# Altium footprint library PCB1.PcbLib: 27 footprints (part 2 of 2)
Each footprint in its own frame and in the unit in brackets; x right, y up, seen from the top. Pads: shape width x height; smd on the part's side, far side on the other; paste and mask are expansions set on the pad; w line width, h text height; cw(c..) or ccw(c..) is an arc to the next point about the centre after c.
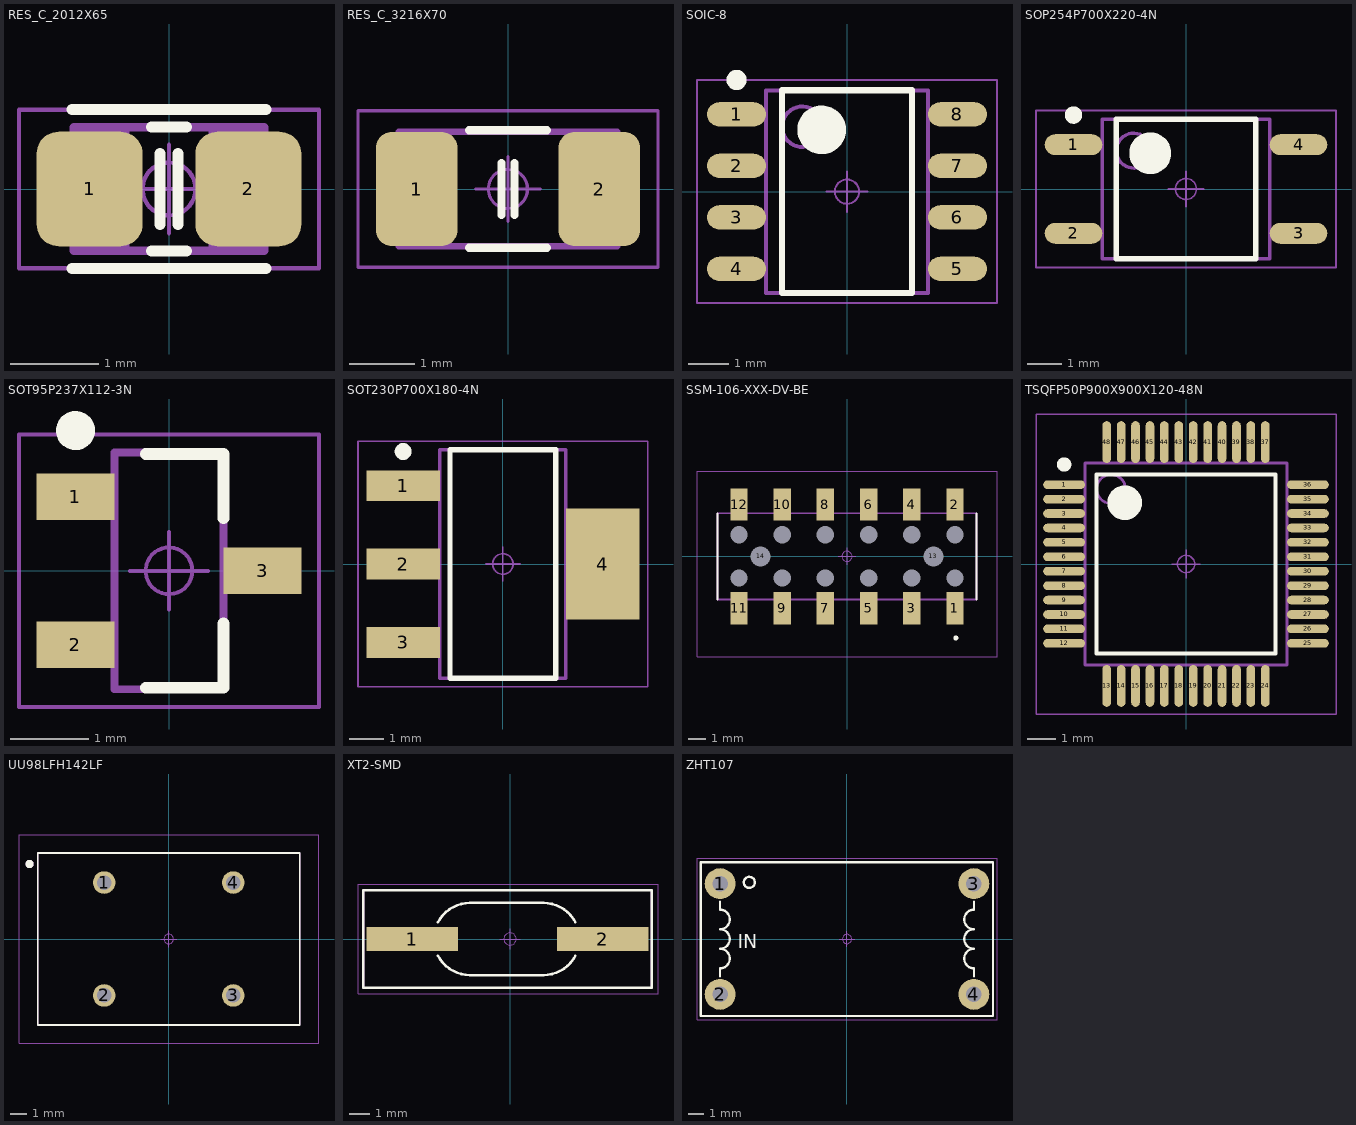
[diagram p1: the footprints below, top view; thin cyan lines are the x and y axes]

## RES_C_2012X65 [mm]
pads (2):
  rrect41% 1.2x1.3 smd: 1(-0.9,0) 2(0.9,0)
Top Overlay:
  lines w0.125: -1.1,-0.9 1.1,-0.9 ; -1.1,0.9 1.1,0.9 ; -0.2,-0.7 0.2,-0.7 ; -0.2,0.7 0.2,0.7 ; -0.1,-0.4 -0.1,0.4 ; 0.1,-0.4 0.1,0.4
Top Assembly:
  lines w0.1: -1.075,-0.7 -1.075,0.7 1.075,0.7 1.075,-0.7 -1.075,-0.7
  text "'.Designator'" at -4.217,-0.663 h1.6
Top Courtyard:
  lines w0.05: -1.7,-0.9 -1.7,0.9 1.7,0.9 1.7,-0.9 -1.7,-0.9
Top Component Center:
  circle w0.05: c0,0 r0.3
  lines w0.05: -0.5,0 0.5,0 ; 0,-0.5 0,0.5
Top Component Outline:
  region: 1.1,0.7 0.45,0.7 0.45,-0.7 1.1,-0.7
  rectangle: -1.1,-0.7 -0.45,0.7
  lines w0.05: -1.1,-0.7 1.1,-0.7 1.1,0.7 -1.1,0.7 -1.1,-0.7
3D body "RESC2012X65.step": height 0.65, standoff 0, extent -1.075,-0.7 1.075,0.7

## RES_C_3216X70 [mm]
pads (2):
  rrect39% 1.25x1.75 smd: 1(-1.4,0) 2(1.4,0)
Top Overlay:
  lines w0.125: -0.6,-0.9 0.6,-0.9 ; -0.6,0.9 0.6,0.9 ; -0.1,-0.4 -0.1,0.4 ; 0.1,-0.4 0.1,0.4
Top Assembly:
  lines w0.1: -1.675,-0.875 -1.675,0.875 1.675,0.875 1.675,-0.875 -1.675,-0.875
  text "'.Designator'" at -4.217,-0.663 h1.6
Top Courtyard:
  lines w0.05: -2.3,-1.2 -2.3,1.2 2.3,1.2 2.3,-1.2 -2.3,-1.2
Top Component Center:
  circle w0.05: c0,0 r0.3
  lines w0.05: -0.5,0 0.5,0 ; 0,-0.5 0,0.5
Top Component Outline:
  rectangle: -1.675,-0.875 -0.925,0.875
  region: 1.675,0.875 0.925,0.875 0.925,-0.875 1.675,-0.875
  lines w0.05: -1.675,-0.875 -1.675,0.875 1.675,0.875 1.675,-0.875 -1.675,-0.875
3D body "RESC3216X70.step": height 0.71, standoff 0, extent -1.675,-0.875 1.675,0.875

## SOIC-8 [mm]
pads (8):
  oval 1.45x0.6 smd: 1(-2.725,1.905) 2(-2.725,0.635) 3(-2.725,-0.635) 4(-2.725,-1.905) 5(2.725,-1.905) 6(2.725,-0.635) 7(2.725,0.635) 8(2.725,1.905)
Top Overlay:
  circle w0.25: c-2.725,2.755 r0.125
  circle w0.6: c-0.625,1.525 r0.3
  lines w0.15: -1.6,-2.5 -1.6,2.5 1.6,2.5 1.6,-2.5 -1.6,-2.5
Top Assembly:
  circle w0.1: c-1.1,1.6 r0.5
  lines w0.1: -2,-2.5 -2,2.5 2,2.5 2,-2.5 -2,-2.5
  text "'.Designator'" at -3.5,-1.6 h1.52
Top Courtyard:
  lines w0.05: -3.7,-2.75 -3.7,2.75 3.7,2.75 3.7,-2.75 -3.7,-2.75
Top Component Center:
  circle w0.05: c0,0 r0.3
  lines w0.05: -0.5,0 0.5,0 ; 0,-0.5 0,0.5
3D body "SOIC127P600X175-8N.step": height 1.75, standoff 0, extent -2.997,-2.5 2.997,2.5

## SOP254P700X220-4N [mm]
pads (4):
  oval 1.65x0.6 smd: 1(-3.225,1.27) 2(-3.225,-1.27) 3(3.225,-1.27) 4(3.225,1.27)
Top Overlay:
  circle w0.25: c-3.225,2.12 r0.125
  circle w0.6: c-1.025,1.025 r0.3
  lines w0.15: -2,-2 -2,2 2,2 2,-2 -2,-2
Top Assembly:
  circle w0.1: c-1.5,1.1 r0.5
  lines w0.1: -2.4,-2 -2.4,2 2.4,2 2.4,-2 -2.4,-2
  text "'.Designator'" at -3,-1.6 h1.52
Top Courtyard:
  lines w0.05: -4.3,-2.25 -4.3,2.25 4.3,2.25 4.3,-2.25 -4.3,-2.25
Top Component Center:
  circle w0.05: c0,0 r0.3
  lines w0.05: -0.5,0 0.5,0 ; 0,-0.5 0,0.5
3D body "SOP254P700X220-4N.step": height 2.2, standoff 0, extent -3.5,-2 3.5,2

## SOT95P237X112-3N [mm]
pads (3):
  rect 1x0.6 smd: 1(-1.2,0.95) 2(-1.2,-0.95) 3(1.2,0)
Top Overlay:
  circle w0.25: c-1.2,1.8 r0.125
  lines w0.15: -0.3,-1.5 0.7,-1.5 0.7,-0.675 ; -0.3,1.5 0.7,1.5 0.7,0.675
Top Assembly:
  lines w0.1: -0.7,-1.52 -0.7,1.52 0.7,1.52 0.7,-1.52 -0.7,-1.52
  text "'.Designator'" at -2.8,-1.5 h1.52
Top Courtyard:
  lines w0.05: -1.925,-1.75 -1.925,1.75 1.925,1.75 1.925,-1.75 -1.925,-1.75
Top Component Center:
  circle w0.05: c0,0 r0.3
  lines w0.05: -0.5,0 0.5,0 ; 0,-0.5 0,0.5
3D body "SOT95P237X112-3N.step": height 1.12, standoff 0, extent -1.32,-1.52 1.32,1.52

## SOT230P700X180-4N [mm]
pads (4):
  rect 2.15x0.9 smd: 1(-2.925,2.3) 2(-2.925,0) 3(-2.925,-2.3)
  rect 2.15x3.25 smd: 4(2.925,0)
Top Overlay:
  circle w0.25: c-2.925,3.3 r0.125
  lines w0.15: -1.55,-3.35 1.55,-3.35 1.55,3.35 -1.55,3.35 -1.55,-3.35
Top Assembly:
  lines w0.1: -1.85,-3.35 1.85,-3.35 1.85,3.35 -1.85,3.35 -1.85,-3.35
  text "'.Designator'" at -3.6,-1.4 h1.52
Top Courtyard:
  lines w0.05: -4.25,-3.6 4.25,-3.6 4.25,3.6 -4.25,3.6 -4.25,-3.6
Top Component Center:
  circle w0.05: c0,0 r0.3
  lines w0.05: -0.5,0 0.5,0 ; 0,-0.5 0,0.5
3D body "SOT230P700X180-4N.step": height 1.8, standoff 0, extent -3.5,-3.35 3.5,3.35

## SSM-106-XXX-DV-BE [mm]
pads (26):
  rect 1.02x1.905 smd: 1(6.35,-3.047) 2(6.35,3.047) 3(3.81,-3.047) 4(3.81,3.047) 5(1.27,-3.047) 6(1.27,3.047) 7(-1.27,-3.047) 8(-1.27,3.047) 9(-3.81,-3.047) 10(-3.81,3.047) 11(-6.35,-3.047) 12(-6.35,3.047)
  round 0.585 hole 1.17 unplated: 13(5.08,0) 14(-5.08,0)
  round 0.51 hole 1.02 unplated: 13(6.35,-1.27) 14(6.35,1.27) 15(3.81,-1.27) 16(3.81,1.27) 17(1.27,-1.27) 18(1.27,1.27) 19(-1.27,-1.27) 20(-1.27,1.27) 21(-3.81,-1.27) 22(-3.81,1.27) 23(-6.35,-1.27) 24(-6.35,1.27)
Top Overlay:
  circle w0.2: c6.4,-4.798 r0.05
  lines w0.1: -7.62,-2.54 -7.62,2.54 ; 7.62,-2.54 7.62,2.54
Top Assembly:
  lines w0.1: -7.62,-2.54 7.62,-2.54 7.62,2.54 -7.62,2.54 -7.62,-2.54
  text "'.Designator'" at -6.8,-1.2 h1.52
Top Courtyard:
  lines w0.05: -8.82,-5.897 8.82,-5.897 8.82,5 -8.82,5 -8.82,-5.897
Top Component Center:
  circle w0.05: c0,0 r0.3
  lines w0.05: -0.5,0 0.5,0 ; 0,-0.5 0,0.5
3D body "SSM-106-S-DV-A.stp": height 7.5, standoff -1.09, extent -7.62,-3.518 7.62,3.518

## TSQFP50P900X900X120-48N [mm]
pads (48):
  oval 1.45x0.3 smd: 1(-4.225,2.75) 2(-4.225,2.25) 3(-4.225,1.75) 4(-4.225,1.25) 5(-4.225,0.75) 6(-4.225,0.25) 7(-4.225,-0.25) 8(-4.225,-0.75) 9(-4.225,-1.25) 10(-4.225,-1.75) 11(-4.225,-2.25) 12(-4.225,-2.75) 25(4.225,-2.75) 26(4.225,-2.25) 27(4.225,-1.75) 28(4.225,-1.25) 29(4.225,-0.75) 30(4.225,-0.25) 31(4.225,0.25) 32(4.225,0.75) 33(4.225,1.25) 34(4.225,1.75) 35(4.225,2.25) 36(4.225,2.75)
  oval 0.3x1.45 smd: 13(-2.75,-4.225) 14(-2.25,-4.225) 15(-1.75,-4.225) 16(-1.25,-4.225) 17(-0.75,-4.225) 18(-0.25,-4.225) 19(0.25,-4.225) 20(0.75,-4.225) 21(1.25,-4.225) 22(1.75,-4.225) 23(2.25,-4.225) 24(2.75,-4.225) 37(2.75,4.225) 38(2.25,4.225) 39(1.75,4.225) 40(1.25,4.225) 41(0.75,4.225) 42(0.25,4.225) 43(-0.25,4.225) 44(-0.75,4.225) 45(-1.25,4.225) 46(-1.75,4.225) 47(-2.25,4.225) 48(-2.75,4.225)
Top Overlay:
  circle w0.25: c-4.225,3.45 r0.125
  circle w0.6: c-2.125,2.125 r0.3
  lines w0.15: -3.1,-3.1 -3.1,3.1 3.1,3.1 3.1,-3.1 -3.1,-3.1
Top Assembly:
  circle w0.1: c-2.6,2.6 r0.5
  lines w0.1: -3.5,-3.5 -3.5,3.5 3.5,3.5 3.5,-3.5 -3.5,-3.5
  text "'.Designator'" at -4.5,-1.4 h1.52
Top Courtyard:
  lines w0.05: -5.2,-5.2 -5.2,5.2 5.2,5.2 5.2,-5.2 -5.2,-5.2
Top Component Center:
  circle w0.05: c0,0 r0.3
  lines w0.05: -0.5,0 0.5,0 ; 0,-0.5 0,0.5
3D body "TSQFP50P900X900X120-48N.step": height 1.2, standoff 0, extent -4.5,-4.5 4.5,4.5

## UU98LFH142LF [mm]
pads (4):
  round 1.4 hole 0.9: 1(-4,3.5) 2(-4,-3.5) 3(4,-3.5) 4(4,3.5)
Top Overlay:
  circle w0.25: c-8.625,4.65 r0.125
  lines w0.1: -8.128,-5.334 -8.128,5.334 8.128,5.334 8.128,-5.334 -8.128,-5.334
Top Assembly:
  circle w0.25: c-8.625,4.65 r0.125
  lines w0.1: -8.128,-5.334 -8.128,5.334 8.128,5.334 8.128,-5.334 -8.128,-5.334
  text "'.Designator'" at -5.926,-1.454 h1.52
Top Courtyard:
  lines w0.05: -9.283,-6.477 -9.283,6.477 9.317,6.477 9.317,-6.477 -9.283,-6.477
Top Component Center:
  circle w0.05: c0,0 r0.3
  lines w0.05: -0.5,0 0.5,0 ; 0,-0.5 0,0.5
3D body "User Library-UF9_8.step": height 15.3, standoff -3, extent -8.081,-5.3 8.076,5.3

## XT2-SMD [mm]
pads (2):
  rect 4.5x1.2 smd: 1(-4.826,0) 2(4.572,0)
Top Overlay:
  lines w0.12: -7.239,-2.413 6.985,-2.413 ; -7.239,-2.413 -7.239,2.413 ; -7.239,-2.413 -7.239,2.413 ; -7.239,-2.413 6.985,-2.413 ; -7.239,2.413 6.985,2.413 ; -7.239,2.413 6.985,2.413 ; 6.985,-2.413 6.985,2.413 ; 6.985,-2.413 6.985,2.413
  lines w0.127: -3.556,-0.825 ccw(c-1.981,0) -1.981,-1.778 ; -3.556,0.825 cw(c-1.981,0) -1.981,1.778 ; -1.956,1.778 1.651,1.778 cw(c1.651,0) 3.226,0.825 ; -1.93,-1.787 1.626,-1.787 ; 1.651,-1.778 ccw(c1.651,0) 3.226,-0.825
Top Assembly:
  lines w0.1: -7.239,-2.413 -7.239,2.413 ; -7.239,-2.413 -7.239,2.413 ; -7.239,-2.413 6.985,-2.413 ; -7.239,-2.413 6.985,-2.413 ; -7.239,2.413 6.985,2.413 ; -7.239,2.413 6.985,2.413 ; 6.985,-2.413 6.985,2.413 ; 6.985,-2.413 6.985,2.413
  text "'.Designator'" at -7.4,-1.2 h1.52
Top Courtyard:
  lines w0.05: -7.5,-2.7 7.3,-2.7 7.3,2.7 -7.5,2.7 -7.5,-2.7
Top Component Center:
  circle w0.05: c0,0 r0.3
  lines w0.05: -0.5,0 0.5,0 ; 0,-0.5 0,0.5
3D body: height 0.25, standoff 0, extent -4.534,-0.419 -3.213,0.394
3D body: height 0.25, standoff 0, extent 2.832,-0.419 4.153,0.394
3D body: height 4.3, standoff 0, extent -6.527,-2.415 6.273,2.415

## ZHT107 [mm]
pads (4):
  round 2 hole 1: 1(-8.25,3.6) 2(-8.25,-3.6) 3(8.25,3.6) 4(8.25,-3.6)
Top Overlay:
  circle w0.15: c-6.35,3.683 r0.359
  lines w0.15: -8.255,-2.413 -8.255,-1.905 ccw(c-8.255,-1.27) -8.255,-0.635 ccw(c-8.255,0) -8.255,0.635 ccw(c-8.255,1.27) -8.255,1.905 -8.255,2.413 ; 8.255,-2.413 8.255,-1.905 cw(c8.255,-1.27) 8.255,-0.635 cw(c8.255,0) 8.255,0.635 cw(c8.255,1.27) 8.255,1.905 8.255,2.413 ; -9.51,-5.01 9.49,-5.01 9.49,4.99 -9.51,4.99 -9.51,-5.01
  text "IN" at -7.112,-0.889 h1.52
Top Assembly:
  text "'.Designator'" at -8,-1 h1.52
Top Courtyard:
  lines w0.05: -9.75,-5.25 9.75,-5.25 9.75,5.25 -9.75,5.25 -9.75,-5.25
Top Component Center:
  circle w0.05: c0,0 r0.3
  lines w0.05: -0.5,0 0.5,0 ; 0,-0.5 0,0.5
3D body "ZHT107.step": height 18.5, standoff -3.8, extent -9.5,-5 9.5,5